# EAGLE library part DIP-BLACK-MALE-HEADER-VERT(2X16P-2.54) (library Seeed-OPL-Connector)
320020049
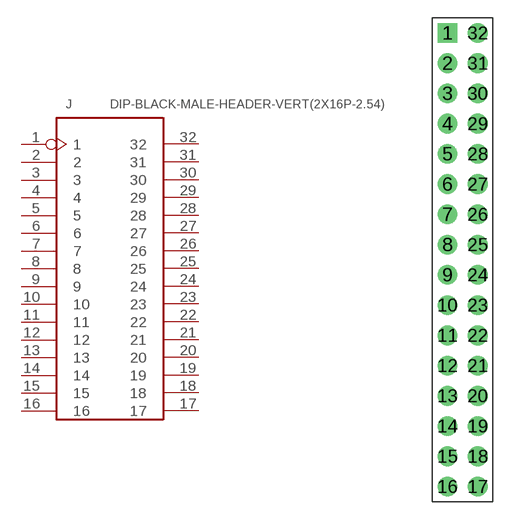
[diagram p122: symbol with the pads of H2X16-2.54; footprint H2X16-2.54]

Designator prefix J

## DIP-BLACK-MALE-HEADER-VERT(2X16P-2.54) (MPN: P125-1232A0AS116A1; VALUE: 2x16p-2.54)  [H2X16-2.54]
1  1
2  2
3  3
4  4
5  5
6  6
7  7
8  8
9  9
10  10
11  11
12  12
13  13
14  14
15  15
16  16
17  17
18  18
19  19
20  20
21  21
22  22
23  23
24  24
25  25
26  26
27  27
28  28
29  29
30  30
31  31
32  32

## Footprint H2X16-2.54 (pad centres in mm)
drill 0.889 pad 1.651 square: 1 -1.27,19.05
drill 0.889 pad 1.651: 2 -1.27,16.51; 3 -1.27,13.97; 4 -1.27,11.43; 5 -1.27,8.89; 6 -1.27,6.35; 7 -1.27,3.81; 8 -1.27,1.27; 9 -1.27,-1.27; 10 -1.27,-3.81; 11 -1.27,-6.35; 12 -1.27,-8.89; 13 -1.27,-11.43; 14 -1.27,-13.97; 15 -1.27,-16.51; 16 -1.27,-19.05; 17 1.27,-19.05; 18 1.27,-16.51; 19 1.27,-13.97; 20 1.27,-11.43; 21 1.27,-8.89; 22 1.27,-6.35; 23 1.27,-3.81; 24 1.27,-1.27; 25 1.27,1.27; 26 1.27,3.81; 27 1.27,6.35; 28 1.27,8.89; 29 1.27,11.43; 30 1.27,13.97; 31 1.27,16.51; 32 1.27,19.05